# EAGLE library part X__JST_SH_6_90° (library connector)
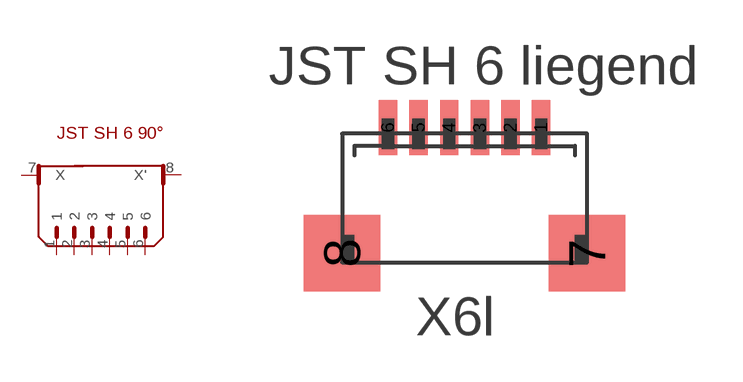
[diagram p3: symbol with the pads of JST_SH_6_90°; footprint JST_SH_6_90°]

Designator prefix -

## X__JST_SH_6_90°  [JST_SH_6_90°]
1  1
2  2
3  3
4  4
5  5
6  6
7  X
8  X'

## Footprint JST_SH_6_90° (pad centres in mm)
smd 0.6 x 1.8: 1 2.5,2.6; 2 1.5,2.6; 3 0.5,2.6; 4 -0.5,2.6; 5 -1.5,2.6; 6 -2.5,2.6
smd 2.5 x 2.5: 7 4,-1.5; 8 -4,-1.5